# EAGLE library part TI-TDC1050 (library FaBo-Mems)
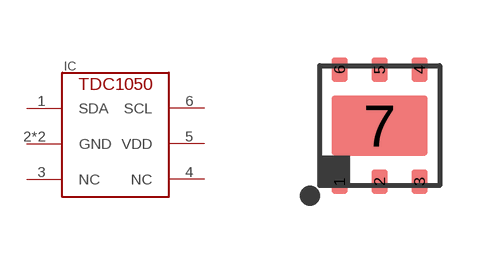
[diagram p28: symbol with the pads of TI-TD1050; footprint TI-TD1050]

Designator prefix IC

## TI-TDC1050  [TI-TD1050]
1  SDA
2  GND
3  NC
4  NC
5  VDD
6  SCL
7  GND

## Footprint TI-TD1050 (pad centres in mm)
smd 0.4 x 0.6: 1 -1,-1.4; 2 0,-1.4; 3 1,-1.4; 4 1,1.4; 5 0,1.4; 6 -1,1.4
smd 2.4 x 1.5: 7 0,0